# Altium integrated library Analog Devices Interface and Isolation Protection Products.IntLib: 92 symbols (part 2 of 5)
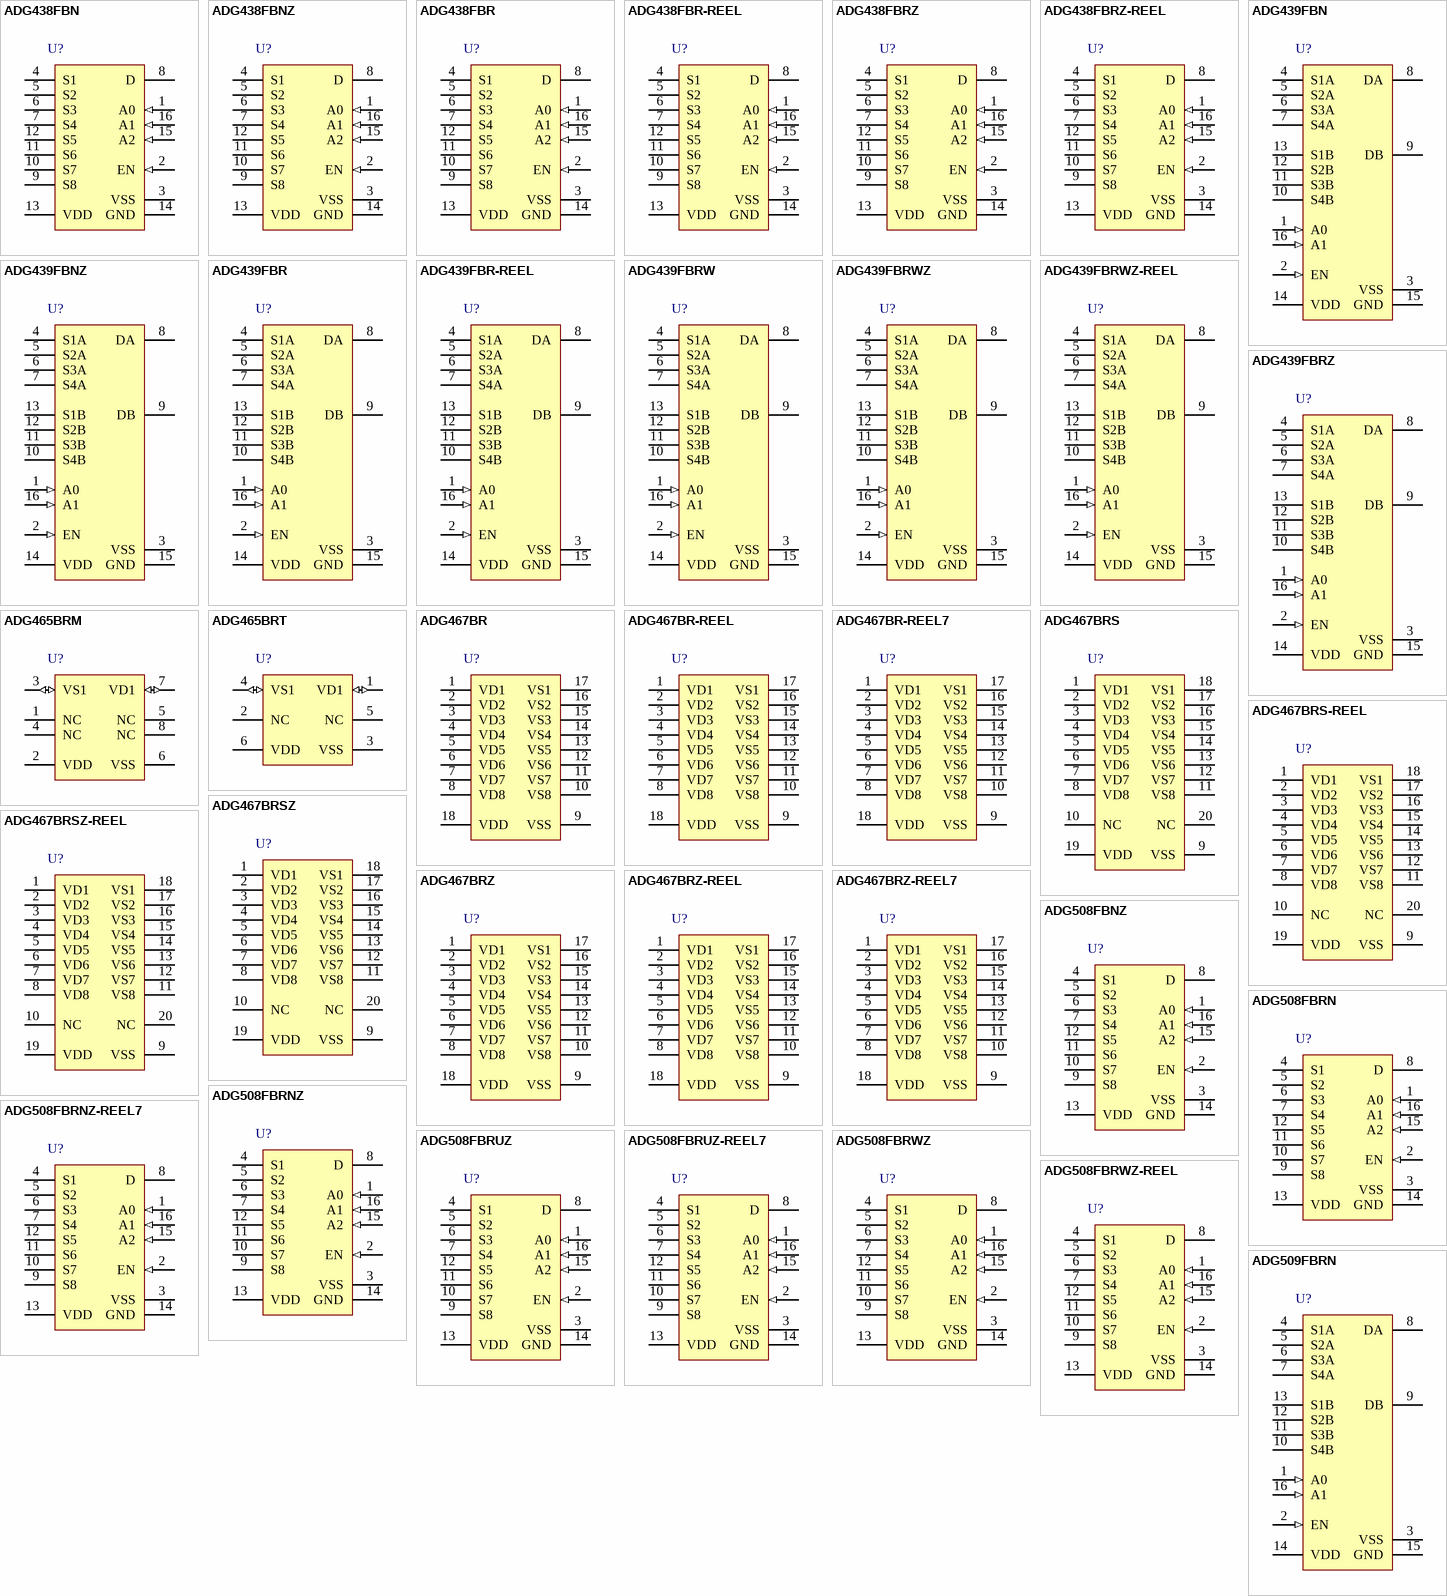
[diagram p3: symbols ADG438FBN to ADG509FBRN]

## ADG467BRSZ
designator U?
Octal Channel Protector, 62 Ohm Ron, -40 to 85 degC, 20-pin SOP (RS-20), Tube; Manufacturer: Analog Devices; PartNumber: ADG467BRSZ; # Sw Functions: 8; Max Neg Supply: 20V; Ron (ohms): 62; DatasheetVersion: Rev. B; PackageVersion: Mar-03; PackageReference: RS-20; PackageDescription: 20-Pin Shrink Small Outline Package, Body 7.2 x 5.3 mm, Pitch 0.65 mm; Supplier 1: Digi-Key; Supplier Part Number 1: ADG467BRSZ-ND; Supplier 2: Farnell; Supplier Part Number 2: 2312791; Supplier 3: Newark; Supplier Part Number 3: 59K1346; Supplier 4: Mouser; Supplier Part Number 4: 584-ADG467BRSZ; Configuration: Channel Protector; Max Pos Supply: 20V; Packing: Tube; Mounting Technology: Surface Mount; Code_JEDEC: MO-150AE; ComponentLink1Description: Manufacturer URL; ComponentLink1URL: http://www.analog.com/en/index.html; ComponentLink2Description: Datasheet; ComponentLink2URL: http://www.analog.com/static/imported-files/data_sheets/ADG467.pdf; ComponentLink3Description: Package Specification; ComponentLink3URL: http://www.analog.com/static/imported-files/packages/318405805657546556503576154334802686596RS_20.pdf
footprint ADI-RS-20_N (SOP, 20-Leads, Body 7.2x5.3mm, Pitch 0.65mm, IPC Medium Density)
footprint ADI-RS-20_L (SOP, 20-Leads, Body 7.2x5.3mm, Pitch 0.65mm, IPC High Density)
footprint ADI-RS-20_M (SOP, 20-Leads, Body 7.2x5.3mm, Pitch 0.65mm, IPC Low Density)
pins: 1 VD1 "Drain Terminal 1. This pin can be an input or an output.", 2 VD2 "Drain Terminal 2. This pin can be an input or an output.", 3 VD3 "Drain Terminal 3. This pin can be an input or an output.", 4 VD4 "Drain Terminal 4. This pin can be an input or an output.", 5 VD5 "Drain Terminal 5. This pin can be an input or an output.", 6 VD6 "Drain Terminal 6. This pin can be an input or an output.", 7 VD7 "Drain Terminal 7. This pin can be an input or an output.", 8 VD8 "Drain Terminal 8. This pin can be an input or an output.", 9 VSS (power) "Most Negative Power Supply Potential. In single-supply applications, this pin can be connected to ground.", 10 NC "No Connect.", 11 VS8 "Source Terminal 1. This pin can be an input or an output.", 12 VS7 "Source Terminal 2. This pin can be an input or an output.", 13 VS6 "Source Terminal 3. This pin can be an input or an output.", 14 VS5 "Source Terminal 4. This pin can be an input or an output.", 15 VS4 "Source Terminal 5. This pin can be an input or an output.", 16 VS3 "Source Terminal 6. This pin can be an input or an output.", 17 VS2 "Source Terminal 7. This pin can be an input or an output.", 18 VS1 "Source Terminal 8. This pin can be an input or an output.", 19 VDD (power) "Most Positive Power Supply Potential.", 20 NC "No Connect. Do not connect to this pin."

## ADG467BRSZ-REEL
designator U?
Octal Channel Protector, 62 Ohm Ron, -40 to 85 degC, 20-pin SOP (RS-20), Reel; Manufacturer: Analog Devices; PartNumber: ADG467BRSZ-REEL; # Sw Functions: 8; Max Neg Supply: 20V; Ron (ohms): 62; DatasheetVersion: Rev. B; PackageVersion: Mar-03; PackageReference: RS-20; PackageDescription: 20-Pin Shrink Small Outline Package, Body 7.2 x 5.3 mm, Pitch 0.65 mm; Supplier 1: Digi-Key; Supplier Part Number 1: ADG467BRSZ-REEL-ND; Supplier 2: Newark; Supplier Part Number 2: 11R0919; Supplier 3: Mouser; Supplier Part Number 3: 584-ADG467BRSZ-R; Configuration: Channel Protector; Max Pos Supply: 20V; Packing: Reel; Mounting Technology: Surface Mount; Code_JEDEC: MO-150AE; ComponentLink1Description: Manufacturer URL; ComponentLink1URL: http://www.analog.com/en/index.html; ComponentLink2Description: Datasheet; ComponentLink2URL: http://www.analog.com/static/imported-files/data_sheets/ADG467.pdf; ComponentLink3Description: Package Specification; ComponentLink3URL: http://www.analog.com/static/imported-files/packages/318405805657546556503576154334802686596RS_20.pdf
footprint ADI-RS-20_N (SOP, 20-Leads, Body 7.2x5.3mm, Pitch 0.65mm, IPC Medium Density)
footprint ADI-RS-20_L (SOP, 20-Leads, Body 7.2x5.3mm, Pitch 0.65mm, IPC High Density)
footprint ADI-RS-20_M (SOP, 20-Leads, Body 7.2x5.3mm, Pitch 0.65mm, IPC Low Density)
pins: 1 VD1 "Drain Terminal 1. This pin can be an input or an output.", 2 VD2 "Drain Terminal 2. This pin can be an input or an output.", 3 VD3 "Drain Terminal 3. This pin can be an input or an output.", 4 VD4 "Drain Terminal 4. This pin can be an input or an output.", 5 VD5 "Drain Terminal 5. This pin can be an input or an output.", 6 VD6 "Drain Terminal 6. This pin can be an input or an output.", 7 VD7 "Drain Terminal 7. This pin can be an input or an output.", 8 VD8 "Drain Terminal 8. This pin can be an input or an output.", 9 VSS (power) "Most Negative Power Supply Potential. In single-supply applications, this pin can be connected to ground.", 10 NC "No Connect.", 11 VS8 "Source Terminal 1. This pin can be an input or an output.", 12 VS7 "Source Terminal 2. This pin can be an input or an output.", 13 VS6 "Source Terminal 3. This pin can be an input or an output.", 14 VS5 "Source Terminal 4. This pin can be an input or an output.", 15 VS4 "Source Terminal 5. This pin can be an input or an output.", 16 VS3 "Source Terminal 6. This pin can be an input or an output.", 17 VS2 "Source Terminal 7. This pin can be an input or an output.", 18 VS1 "Source Terminal 8. This pin can be an input or an output.", 19 VDD (power) "Most Positive Power Supply Potential.", 20 NC "No Connect. Do not connect to this pin."

## ADG467BRZ
designator U?
Octal Channel Protector, 62 Ohm Ron, -40 to 85 degC, 18-pin SOIC (RW-18), Tube; Manufacturer: Analog Devices; PartNumber: ADG467BRZ; # Sw Functions: 8; Max Neg Supply: 20V; Ron (ohms): 62; DatasheetVersion: Rev. B; PackageVersion: 060706-A, 06/2006; PackageReference: RW-18; PackageDescription: 18-Pin Standard Small Outline Package, Body 11.55 x 7.5 mm, Pitch 1.27 mm; Supplier 1: Digi-Key; Supplier Part Number 1: ADG467BRZ-ND; Supplier 2: Farnell; Supplier Part Number 2: 1438711; Supplier 3: Newark; Supplier Part Number 3: 15P0376; Supplier 4: Newark; Supplier Part Number 4: 59K1347; Supplier 5: Mouser; Supplier Part Number 5: 584-ADG467BRZ; Configuration: Channel Protector; Max Pos Supply: 20V; Packing: Tube; Mounting Technology: Surface Mount; Code_JEDEC: MS-013-AB; ComponentLink1Description: Manufacturer URL; ComponentLink1URL: http://www.analog.com/en/index.html; ComponentLink2Description: Datasheet; ComponentLink2URL: http://www.analog.com/static/imported-files/data_sheets/ADG467.pdf; ComponentLink3Description: Package Specification; ComponentLink3URL: http://www.analog.com/static/imported-files/packages/33254132129439RW_18.pdf
footprint ADI-RW-18_N (SOIC, 18-Leads, Body 11.55x7.5mm, Pitch 1.27mm, IPC Medium Density)
footprint ADI-RW-18_L (SOIC, 18-Leads, Body 11.55x7.5mm, Pitch 1.27mm, IPC High Density)
footprint ADI-RW-18_M (SOIC, 18-Leads, Body 11.55x7.5mm, Pitch 1.27mm, IPC Low Density)
pins: 1 VD1 "Drain Terminal 1. This pin can be an input or an output.", 2 VD2 "Drain Terminal 2. This pin can be an input or an output.", 3 VD3 "Drain Terminal 3. This pin can be an input or an output.", 4 VD4 "Drain Terminal 4. This pin can be an input or an output.", 5 VD5 "Drain Terminal 5. This pin can be an input or an output.", 6 VD6 "Drain Terminal 6. This pin can be an input or an output.", 7 VD7 "Drain Terminal 7. This pin can be an input or an output.", 8 VD8 "Drain Terminal 8. This pin can be an input or an output.", 9 VSS (power) "Most Negative Power Supply Potential. In single-supply applications, this pin can be connected to ground.", 10 VS8 "Source Terminal 1. This pin can be an input or an output.", 11 VS7 "Source Terminal 2. This pin can be an input or an output.", 12 VS6 "Source Terminal 3. This pin can be an input or an output.", 13 VS5 "Source Terminal 4. This pin can be an input or an output.", 14 VS4 "Source Terminal 5. This pin can be an input or an output.", 15 VS3 "Source Terminal 6. This pin can be an input or an output.", 16 VS2 "Source Terminal 7. This pin can be an input or an output.", 17 VS1 "Source Terminal 8. This pin can be an input or an output.", 18 VDD (power) "Most Positive Power Supply Potential."

## ADG467BRZ-REEL
designator U?
Octal Channel Protector, 62 Ohm Ron, -40 to 85 degC, 18-pin SOIC (RW-18), Reel; Manufacturer: Analog Devices; PartNumber: ADG467BRZ-REEL; # Sw Functions: 8; Max Neg Supply: 20V; Ron (ohms): 62; DatasheetVersion: Rev. B; PackageVersion: 060706-A, 06/2006; PackageReference: RW-18; PackageDescription: 18-Pin Standard Small Outline Package, Body 11.55 x 7.5 mm, Pitch 1.27 mm; Supplier 1: Digi-Key; Supplier Part Number 1: ADG467BRZ-REEL-ND; Supplier 2: Mouser; Supplier Part Number 2: 584-ADG467BRZ-R; Configuration: Channel Protector; Max Pos Supply: 20V; Packing: Reel; Mounting Technology: Surface Mount; Code_JEDEC: MS-013-AB; ComponentLink1Description: Manufacturer URL; ComponentLink1URL: http://www.analog.com/en/index.html; ComponentLink2Description: Datasheet; ComponentLink2URL: http://www.analog.com/static/imported-files/data_sheets/ADG467.pdf; ComponentLink3Description: Package Specification; ComponentLink3URL: http://www.analog.com/static/imported-files/packages/33254132129439RW_18.pdf
footprint ADI-RW-18_N (SOIC, 18-Leads, Body 11.55x7.5mm, Pitch 1.27mm, IPC Medium Density)
footprint ADI-RW-18_L (SOIC, 18-Leads, Body 11.55x7.5mm, Pitch 1.27mm, IPC High Density)
footprint ADI-RW-18_M (SOIC, 18-Leads, Body 11.55x7.5mm, Pitch 1.27mm, IPC Low Density)
pins: 1 VD1 "Drain Terminal 1. This pin can be an input or an output.", 2 VD2 "Drain Terminal 2. This pin can be an input or an output.", 3 VD3 "Drain Terminal 3. This pin can be an input or an output.", 4 VD4 "Drain Terminal 4. This pin can be an input or an output.", 5 VD5 "Drain Terminal 5. This pin can be an input or an output.", 6 VD6 "Drain Terminal 6. This pin can be an input or an output.", 7 VD7 "Drain Terminal 7. This pin can be an input or an output.", 8 VD8 "Drain Terminal 8. This pin can be an input or an output.", 9 VSS (power) "Most Negative Power Supply Potential. In single-supply applications, this pin can be connected to ground.", 10 VS8 "Source Terminal 1. This pin can be an input or an output.", 11 VS7 "Source Terminal 2. This pin can be an input or an output.", 12 VS6 "Source Terminal 3. This pin can be an input or an output.", 13 VS5 "Source Terminal 4. This pin can be an input or an output.", 14 VS4 "Source Terminal 5. This pin can be an input or an output.", 15 VS3 "Source Terminal 6. This pin can be an input or an output.", 16 VS2 "Source Terminal 7. This pin can be an input or an output.", 17 VS1 "Source Terminal 8. This pin can be an input or an output.", 18 VDD (power) "Most Positive Power Supply Potential."

## ADG467BRZ-REEL7
designator U?
Octal Channel Protector, 62 Ohm Ron, -40 to 85 degC, 18-pin SOIC (RW-18), Reel; Manufacturer: Analog Devices; PartNumber: ADG467BRZ-REEL7; # Sw Functions: 8; Max Neg Supply: 20V; Ron (ohms): 62; DatasheetVersion: Rev. B; PackageVersion: 060706-A, 06/2006; PackageReference: RW-18; PackageDescription: 18-Pin Standard Small Outline Package, Body 11.55 x 7.5 mm, Pitch 1.27 mm; Supplier 1: Digi-Key; Supplier Part Number 1: ADG467BRZ-REEL7-ND; Supplier 2: Mouser; Supplier Part Number 2: 584-ADG467BRZ-R7; Configuration: Channel Protector; Max Pos Supply: 20V; Packing: Reel; Mounting Technology: Surface Mount; Code_JEDEC: MS-013-AB; ComponentLink1Description: Manufacturer URL; ComponentLink1URL: http://www.analog.com/en/index.html; ComponentLink2Description: Datasheet; ComponentLink2URL: http://www.analog.com/static/imported-files/data_sheets/ADG467.pdf; ComponentLink3Description: Package Specification; ComponentLink3URL: http://www.analog.com/static/imported-files/packages/33254132129439RW_18.pdf
footprint ADI-RW-18_N (SOIC, 18-Leads, Body 11.55x7.5mm, Pitch 1.27mm, IPC Medium Density)
footprint ADI-RW-18_L (SOIC, 18-Leads, Body 11.55x7.5mm, Pitch 1.27mm, IPC High Density)
footprint ADI-RW-18_M (SOIC, 18-Leads, Body 11.55x7.5mm, Pitch 1.27mm, IPC Low Density)
pins: 1 VD1 "Drain Terminal 1. This pin can be an input or an output.", 2 VD2 "Drain Terminal 2. This pin can be an input or an output.", 3 VD3 "Drain Terminal 3. This pin can be an input or an output.", 4 VD4 "Drain Terminal 4. This pin can be an input or an output.", 5 VD5 "Drain Terminal 5. This pin can be an input or an output.", 6 VD6 "Drain Terminal 6. This pin can be an input or an output.", 7 VD7 "Drain Terminal 7. This pin can be an input or an output.", 8 VD8 "Drain Terminal 8. This pin can be an input or an output.", 9 VSS (power) "Most Negative Power Supply Potential. In single-supply applications, this pin can be connected to ground.", 10 VS8 "Source Terminal 1. This pin can be an input or an output.", 11 VS7 "Source Terminal 2. This pin can be an input or an output.", 12 VS6 "Source Terminal 3. This pin can be an input or an output.", 13 VS5 "Source Terminal 4. This pin can be an input or an output.", 14 VS4 "Source Terminal 5. This pin can be an input or an output.", 15 VS3 "Source Terminal 6. This pin can be an input or an output.", 16 VS2 "Source Terminal 7. This pin can be an input or an output.", 17 VS1 "Source Terminal 8. This pin can be an input or an output.", 18 VDD (power) "Most Positive Power Supply Potential."

## ADG508FBNZ
designator U?
8-Channel Fault-Protected Analog Multiplexer, -40 to 85 degC, 16-pin DIP (N-16), Tube; Manufacturer: Analog Devices; PartNumber: ADG508FBNZ; Ron (ohms): 300; Supply V Guar Performance: Dual_(+/-12V), Dual_(+/-15V); t transition (s): 200n; DatasheetVersion: Rev. F; PackageVersion: 070706-A, 07/2006; PackageReference: N-16; PackageDescription: 16-Pin Plastic Dual In-Line Package, Row spacing 7.62 mm, Pitch 2.54 mm; Supplier 1: Digi-Key; Supplier Part Number 1: ADG508FBNZ-ND; Supplier 2: Farnell; Supplier Part Number 2: 1079419; Supplier 3: Newark; Supplier Part Number 3: 19M0676; Supplier 4: Mouser; Supplier Part Number 4: 584-ADG508FBNZ; Packing: Tube; Mounting Technology: Through Hole; Code_JEDEC: MS-001; ComponentLink1Description: Manufacturer URL; ComponentLink1URL: http://www.analog.com/en/index.html; ComponentLink2Description: Datasheet; ComponentLink2URL: http://www.analog.com/static/imported-files/data_sheets/ADG508F_509F.pdf; ComponentLink3Description: Package Specification; ComponentLink3URL: http://www.analog.com/static/imported-files/packages/44768431550332N_16.pdf
footprint ADI-N-16 (DIP, 16-Leads, Body 20.07x6.6mm, Pitch 2.54mm)
pins: 1 A0 (in) "Logic Control Input.", 2 EN (in) "Active High Digital Input. When low, the device is disabled and all switches are off. When high, Ax logic inputs determine on switches.", 3 VSS (power) "Most Negative Power Supply Potential. In single-supply applications, this pin can be connected to ground.", 4 S1 "Source Terminal 1. This pin can be an input or an output.", 5 S2 "Source Terminal 2. This pin can be an input or an output.", 6 S3 "Source Terminal 2. This pin can be an input or an output.", 7 S4 "Source Terminal 4. This pin can be an input or an output.", 8 D "Drain Terminal. This pin can be an input or an output.", 9 S8 "Source Terminal 8. This pin can be an input or an output.", 10 S7 "Source Terminal 7. This pin can be an input or an output.", 11 S6 "Source Terminal 6. This pin can be an input or an output.", 12 S5 "Source Terminal 5. This pin can be an input or an output.", 13 VDD (power) "Most Positive Power Supply Potential.", 14 GND (power) "Ground (0 V) Reference.", 15 A2 (in) "Logic Control Input.", 16 A1 (in) "Logic Control Input."

## ADG508FBRN
designator U?
8-Channel Fault-Protected Analog Multiplexer, -40 to 85 degC, 16-pin SOIC (R-16), Tube; Manufacturer: Analog Devices; PartNumber: ADG508FBRN; Ron (ohms): 300; Supply V Guar Performance: Dual_(+/-12V), Dual_(+/-15V); t transition (s): 200n; DatasheetVersion: Rev. F; PackageVersion: 060606-A, 06/2006; PackageReference: R-16; PackageDescription: 16-Pin Standard Small Outline Package, Body 9.9 x 3.9 mm, Pitch 1.27 mm; Supplier 1: Digi-Key; Supplier Part Number 1: ADG508FBRN-ND; Supplier 2: Mouser; Supplier Part Number 2: 584-ADG508FBRN; Packing: Tube; Mounting Technology: Surface Mount; Code_JEDEC: MS-012-AC; ComponentLink1Description: Manufacturer URL; ComponentLink1URL: http://www.analog.com/en/index.html; ComponentLink2Description: Datasheet; ComponentLink2URL: http://www.analog.com/static/imported-files/data_sheets/ADG508F_509F.pdf; ComponentLink3Description: Package Specification; ComponentLink3URL: http://www.analog.com/static/imported-files/packages/PKG_PDF/SOIC_Narrow%20(R)/R_16.pdf
footprint ADI-R-16_N (SOIC, 16-Leads, Body 9.9x3.9mm, Pitch 1.27mm, IPC Medium Density)
footprint ADI-R-16_L (SOIC, 16-Leads, Body 9.9x3.9mm, Pitch 1.27mm, IPC High Density)
footprint ADI-R-16_M (SOIC, 16-Leads, Body 9.9x3.9mm, Pitch 1.27mm, IPC Low Density)
pins: 1 A0 (in) "Logic Control Input.", 2 EN (in) "Active High Digital Input. When low, the device is disabled and all switches are off. When high, Ax logic inputs determine on switches.", 3 VSS (power) "Most Negative Power Supply Potential. In single-supply applications, it can be connected to ground.", 4 S1 "Source Terminal 1. Can be an input or an output.", 5 S2 "Source Terminal 2. Can be an input or an output.", 6 S3 "Source Terminal 3. Can be an input or an output.", 7 S4 "Source Terminal 4. Can be an input or an output.", 8 D "Drain Terminal. Can be an input or an output.", 9 S8 "Source Terminal 8. Can be an input or an output.", 10 S7 "Source Terminal 7. Can be an input or an output.", 11 S6 "Source Terminal 6. Can be an input or an output.", 12 S5 "Source Terminal 5. Can be an input or an output.", 13 VDD (power) "Most Positive Power Supply Potential.", 14 GND (power) "Ground (0 V) Reference.", 15 A2 (in) "Logic Control Input.", 16 A1 (in) "Logic Control Input."

## ADG508FBRNZ
designator U?
8-Channel Fault-Protected Analog Multiplexer, -40 to 85 degC, 16-pin SOIC (R-16), Tube; Manufacturer: Analog Devices; PartNumber: ADG508FBRNZ; Ron (ohms): 300; Supply V Guar Performance: Dual_(+/-12V), Dual_(+/-15V); t transition (s): 200n; DatasheetVersion: Rev. F; PackageVersion: 060606-A, 06/2006; PackageReference: R-16; PackageDescription: 16-Pin Standard Small Outline Package, Body 9.9 x 3.9 mm, Pitch 1.27 mm; Supplier 1: Digi-Key; Supplier Part Number 1: ADG508FBRNZ-ND; Supplier 2: Farnell; Supplier Part Number 2: 1838901; Supplier 3: Newark; Supplier Part Number 3: 19M8660; Supplier 4: Mouser; Supplier Part Number 4: 584-ADG508FBRNZ; Packing: Tube; Mounting Technology: Surface Mount; Code_JEDEC: MS-012-AC; ComponentLink1Description: Manufacturer URL; ComponentLink1URL: http://www.analog.com/en/index.html; ComponentLink2Description: Datasheet; ComponentLink2URL: http://www.analog.com/static/imported-files/data_sheets/ADG508F_509F.pdf; ComponentLink3Description: Package Specification; ComponentLink3URL: http://www.analog.com/static/imported-files/packages/PKG_PDF/SOIC_Narrow%20(R)/R_16.pdf
footprint ADI-R-16_N (SOIC, 16-Leads, Body 9.9x3.9mm, Pitch 1.27mm, IPC Medium Density)
footprint ADI-R-16_L (SOIC, 16-Leads, Body 9.9x3.9mm, Pitch 1.27mm, IPC High Density)
footprint ADI-R-16_M (SOIC, 16-Leads, Body 9.9x3.9mm, Pitch 1.27mm, IPC Low Density)
pins: 1 A0 (in) "Logic Control Input.", 2 EN (in) "Active High Digital Input. When low, the device is disabled and all switches are off. When high, Ax logic inputs determine on switches.", 3 VSS (power) "Most Negative Power Supply Potential. In single-supply applications, it can be connected to ground.", 4 S1 "Source Terminal 1. Can be an input or an output.", 5 S2 "Source Terminal 2. Can be an input or an output.", 6 S3 "Source Terminal 3. Can be an input or an output.", 7 S4 "Source Terminal 4. Can be an input or an output.", 8 D "Drain Terminal. Can be an input or an output.", 9 S8 "Source Terminal 8. Can be an input or an output.", 10 S7 "Source Terminal 7. Can be an input or an output.", 11 S6 "Source Terminal 6. Can be an input or an output.", 12 S5 "Source Terminal 5. Can be an input or an output.", 13 VDD (power) "Most Positive Power Supply Potential.", 14 GND (power) "Ground (0 V) Reference.", 15 A2 (in) "Logic Control Input.", 16 A1 (in) "Logic Control Input."

## ADG508FBRNZ-REEL7
designator U?
8-Channel Fault-Protected Analog Multiplexer, -40 to 85 degC, 16-pin SOIC (R-16), Reel; Manufacturer: Analog Devices; PartNumber: ADG508FBRNZ-REEL7; Ron (ohms): 300; Supply V Guar Performance: Dual_(+/-12V), Dual_(+/-15V); t transition (s): 200n; DatasheetVersion: Rev. F; PackageVersion: 060606-A, 06/2006; PackageReference: R-16; PackageDescription: 16-Pin Standard Small Outline Package, Body 9.9 x 3.9 mm, Pitch 1.27 mm; Supplier 1: Digi-Key; Supplier Part Number 1: ADG508FBRNZ-REEL7-ND; Supplier 2: Mouser; Supplier Part Number 2: 584-ADG508FBRNZ-R7; Packing: Reel; Mounting Technology: Surface Mount; Code_JEDEC: MS-012-AC; ComponentLink1Description: Manufacturer URL; ComponentLink1URL: http://www.analog.com/en/index.html; ComponentLink2Description: Datasheet; ComponentLink2URL: http://www.analog.com/static/imported-files/data_sheets/ADG508F_509F.pdf; ComponentLink3Description: Package Specification; ComponentLink3URL: http://www.analog.com/static/imported-files/packages/PKG_PDF/SOIC_Narrow%20(R)/R_16.pdf
footprint ADI-R-16_N (SOIC, 16-Leads, Body 9.9x3.9mm, Pitch 1.27mm, IPC Medium Density)
footprint ADI-R-16_L (SOIC, 16-Leads, Body 9.9x3.9mm, Pitch 1.27mm, IPC High Density)
footprint ADI-R-16_M (SOIC, 16-Leads, Body 9.9x3.9mm, Pitch 1.27mm, IPC Low Density)
pins: 1 A0 (in) "Logic Control Input.", 2 EN (in) "Active High Digital Input. When low, the device is disabled and all switches are off. When high, Ax logic inputs determine on switches.", 3 VSS (power) "Most Negative Power Supply Potential. In single-supply applications, it can be connected to ground.", 4 S1 "Source Terminal 1. Can be an input or an output.", 5 S2 "Source Terminal 2. Can be an input or an output.", 6 S3 "Source Terminal 3. Can be an input or an output.", 7 S4 "Source Terminal 4. Can be an input or an output.", 8 D "Drain Terminal. Can be an input or an output.", 9 S8 "Source Terminal 8. Can be an input or an output.", 10 S7 "Source Terminal 7. Can be an input or an output.", 11 S6 "Source Terminal 6. Can be an input or an output.", 12 S5 "Source Terminal 5. Can be an input or an output.", 13 VDD (power) "Most Positive Power Supply Potential.", 14 GND (power) "Ground (0 V) Reference.", 15 A2 (in) "Logic Control Input.", 16 A1 (in) "Logic Control Input."

## ADG508FBRUZ
designator U?
8-Channel Fault-Protected Analog Multiplexer, -40 to 85 degC, 16-pin SOP (RU-16), Tube; Manufacturer: Analog Devices; PartNumber: ADG508FBRUZ; Ron (ohms): 300; Supply V Guar Performance: Dual_(+/-12V), Dual_(+/-15V); t transition (s): 200n; DatasheetVersion: Rev. F; PackageVersion: Nov-02; PackageReference: RU-16; PackageDescription: 16-Pin Thin Shrink Small Outline Package, Body 5 x 4.4 mm, Pitch 0.65 mm; Supplier 1: Digi-Key; Supplier Part Number 1: ADG508FBRUZ-ND; Supplier 2: Newark; Supplier Part Number 2: 86T6057; Supplier 3: Mouser; Supplier Part Number 3: 584-ADG508FBRUZ; Packing: Tube; Mounting Technology: Surface Mount; Code_JEDEC: MO-153AB; ComponentLink1Description: Manufacturer URL; ComponentLink1URL: http://www.analog.com/en/index.html; ComponentLink2Description: Datasheet; ComponentLink2URL: http://www.analog.com/static/imported-files/data_sheets/ADG508F_509F.pdf; ComponentLink3Description: Package Specification; ComponentLink3URL: http:/www.analog.com/static/imported-files/packages/36244347913743854010197452789RU16.pdf
footprint ADI-RU-16_N (SOP, 16-Leads, Body 5x4.4mm, Pitch 0.65mm, IPC Medium Density)
footprint ADI-RU-16_L (SOP, 16-Leads, Body 5x4.4mm, Pitch 0.65mm, IPC High Density)
footprint ADI-RU-16_M (SOP, 16-Leads, Body 5x4.4mm, Pitch 0.65mm, IPC Low Density)
pins: 1 A0 (in) "Logic Control Input.", 2 EN (in) "Active High Digital Input. When low, the device is disabled and all switches are off. When high, Ax logic inputs determine on switches.", 3 VSS (power) "Most Negative Power Supply Potential. In single-supply applications, this pin can be connected to ground.", 4 S1 "Source Terminal 1. This pin can be an input or an output.", 5 S2 "Source Terminal 2. This pin can be an input or an output.", 6 S3 "Source Terminal 3. This pin can be an input or an output.", 7 S4 "Source Terminal 4. This pin can be an input or an output.", 8 D "Drain Terminal. This pin can be an input or an output.", 9 S8 "Source Terminal 8. This pin can be an input or an output.", 10 S7 "Source Terminal 7. This pin can be an input or an output.", 11 S6 "Source Terminal 6. This pin can be an input or an output.", 12 S5 "Source Terminal 5. This pin can be an input or an output.", 13 VDD (power) "Most Positive Power Supply Potential.", 14 GND (power) "Ground (0 V) Reference.", 15 A2 (in) "Logic Control Input.", 16 A1 (in) "Logic Control Input."

## ADG508FBRUZ-REEL7
designator U?
8-Channel Fault-Protected Analog Multiplexer, -40 to 85 degC, 16-pin SOP (RU-16), Reel; Manufacturer: Analog Devices; PartNumber: ADG508FBRUZ-REEL7; Ron (ohms): 300; Supply V Guar Performance: Dual_(+/-12V), Dual_(+/-15V); t transition (s): 200n; DatasheetVersion: Rev. F; PackageVersion: Nov-02; PackageReference: RU-16; PackageDescription: 16-Pin Thin Shrink Small Outline Package, Body 5 x 4.4 mm, Pitch 0.65 mm; Supplier 1: Digi-Key; Supplier Part Number 1: ADG508FBRUZ-REEL7-ND; Supplier 2: Mouser; Supplier Part Number 2: 584-ADG508FBRUZ-R7; Packing: Reel; Mounting Technology: Surface Mount; Code_JEDEC: MO-153AB; ComponentLink1Description: Manufacturer URL; ComponentLink1URL: http://www.analog.com/en/index.html; ComponentLink2Description: Datasheet; ComponentLink2URL: http://www.analog.com/static/imported-files/data_sheets/ADG508F_509F.pdf; ComponentLink3Description: Package Specification; ComponentLink3URL: http:/www.analog.com/static/imported-files/packages/36244347913743854010197452789RU16.pdf
footprint ADI-RU-16_N (SOP, 16-Leads, Body 5x4.4mm, Pitch 0.65mm, IPC Medium Density)
footprint ADI-RU-16_L (SOP, 16-Leads, Body 5x4.4mm, Pitch 0.65mm, IPC High Density)
footprint ADI-RU-16_M (SOP, 16-Leads, Body 5x4.4mm, Pitch 0.65mm, IPC Low Density)
pins: 1 A0 (in) "Logic Control Input.", 2 EN (in) "Active High Digital Input. When low, the device is disabled and all switches are off. When high, Ax logic inputs determine on switches.", 3 VSS (power) "Most Negative Power Supply Potential. In single-supply applications, this pin can be connected to ground.", 4 S1 "Source Terminal 1. This pin can be an input or an output.", 5 S2 "Source Terminal 2. This pin can be an input or an output.", 6 S3 "Source Terminal 3. This pin can be an input or an output.", 7 S4 "Source Terminal 4. This pin can be an input or an output.", 8 D "Drain Terminal. This pin can be an input or an output.", 9 S8 "Source Terminal 8. This pin can be an input or an output.", 10 S7 "Source Terminal 7. This pin can be an input or an output.", 11 S6 "Source Terminal 6. This pin can be an input or an output.", 12 S5 "Source Terminal 5. This pin can be an input or an output.", 13 VDD (power) "Most Positive Power Supply Potential.", 14 GND (power) "Ground (0 V) Reference.", 15 A2 (in) "Logic Control Input.", 16 A1 (in) "Logic Control Input."

## ADG508FBRWZ
designator U?
8-Channel Fault-Protected Analog Multiplexer, -40 to 85 degC, 16-pin SOIC (RW-16), Tube; Manufacturer: Analog Devices; PartNumber: ADG508FBRWZ; Ron (ohms): 300; Supply V Guar Performance: Dual_(+/-12V), Dual_(+/-15V); t transition (s): 200n; DatasheetVersion: Rev. F; PackageVersion: 032707-B, 03/2007; PackageReference: RW-16; PackageDescription: 16-Pin Standard Small Outline Package, Body 10.3 x 7.5 mm, Pitch 1.27 mm; Supplier 1: Digi-Key; Supplier Part Number 1: ADG508FBRWZ-ND; Supplier 2: Newark; Supplier Part Number 2: 59K1367; Supplier 3: Mouser; Supplier Part Number 3: 584-ADG508FBRWZ; Packing: Tube; Mounting Technology: Surface Mount; Code_JEDEC: MS-013-AA; ComponentLink1Description: Manufacturer URL; ComponentLink1URL: http://www.analog.com/en/index.html; ComponentLink2Description: Datasheet; ComponentLink2URL: http://www.analog.com/static/imported-files/data_sheets/ADG508F_509F.pdf; ComponentLink3Description: Package Specification; ComponentLink3URL: http://www.analog.com/static/imported-files/packages/PKG_PDF/SOIC_WIDE%20%28RW%29/RW_16.pdf
footprint ADI-RW-16_N (SOIC, 16-Leads, Body 10.3x7.5mm, Pitch 1.27mm, IPC Medium Density)
footprint ADI-RW-16_L (SOIC, 16-Leads, Body 10.3x7.5mm, Pitch 1.27mm, IPC High Density)
footprint ADI-RW-16_M (SOIC, 16-Leads, Body 10.3x7.5mm, Pitch 1.27mm, IPC Low Density)
pins: 1 A0 (in) "Logic Control Input.", 2 EN (in) "Active High Digital Input. When low, the device is disabled, and all switches are off. When high, Ax logic inputs determine on switches.", 3 VSS (power) "Most Negative Power Supply Potential. In single-supply applications, this pin can be connected to ground.", 4 S1 "Source Terminal 1. This pin can be an input or an output.", 5 S2 "Source Terminal 2. This pin can be an input or an output.", 6 S3 "Source Terminal 3. This pin can be an input or an output.", 7 S4 "Source Terminal 4. This pin can be an input or an output.", 8 D "Drain Terminal. This pin can be an input or an output.", 9 S8 "Source Terminal 8. This pin can be an input or an output.", 10 S7 "Source Terminal 7. This pin can be an input or an output.", 11 S6 "Source Terminal 6. This pin can be an input or an output.", 12 S5 "Source Terminal 5. This pin can be an input or an output.", 13 VDD (power) "Most Positive Power Supply Potential.", 14 GND (power) "Ground (0 V) Reference.", 15 A2 (in) "Logic Control Input.", 16 A1 (in) "Logic Control Input."

## ADG508FBRWZ-REEL
designator U?
8-Channel Fault-Protected Analog Multiplexer, -40 to 85 degC, 16-pin SOIC (RW-16), Reel; Manufacturer: Analog Devices; PartNumber: ADG508FBRWZ-REEL; Ron (ohms): 300; Supply V Guar Performance: Dual_(+/-12V), Dual_(+/-15V); t transition (s): 200n; DatasheetVersion: Rev. F; PackageVersion: 032707-B, 03/2007; PackageReference: RW-16; PackageDescription: 16-Pin Standard Small Outline Package, Body 10.3 x 7.5 mm, Pitch 1.27 mm; Supplier 1: Digi-Key; Supplier Part Number 1: ADG508FBRWZ-REELTR-ND; Supplier 2: Digi-Key; Supplier Part Number 2: ADG508FBRWZ-REELCT-ND; Supplier 3: Digi-Key; Supplier Part Number 3: ADG508FBRWZ-REELDKR-ND; Supplier 4: Newark; Supplier Part Number 4: 59K1368; Supplier 5: Mouser; Supplier Part Number 5: 584-ADG508FBRWZ-R; Packing: Reel; Mounting Technology: Surface Mount; Code_JEDEC: MS-013-AA; ComponentLink1Description: Manufacturer URL; ComponentLink1URL: http://www.analog.com/en/index.html; ComponentLink2Description: Datasheet; ComponentLink2URL: http://www.analog.com/static/imported-files/data_sheets/ADG508F_509F.pdf; ComponentLink3Description: Package Specification; ComponentLink3URL: http://www.analog.com/static/imported-files/packages/PKG_PDF/SOIC_WIDE%20%28RW%29/RW_16.pdf
footprint ADI-RW-16_N (SOIC, 16-Leads, Body 10.3x7.5mm, Pitch 1.27mm, IPC Medium Density)
footprint ADI-RW-16_L (SOIC, 16-Leads, Body 10.3x7.5mm, Pitch 1.27mm, IPC High Density)
footprint ADI-RW-16_M (SOIC, 16-Leads, Body 10.3x7.5mm, Pitch 1.27mm, IPC Low Density)
pins: 1 A0 (in) "Logic Control Input.", 2 EN (in) "Active High Digital Input. When low, the device is disabled, and all switches are off. When high, Ax logic inputs determine on switches.", 3 VSS (power) "Most Negative Power Supply Potential. In single-supply applications, this pin can be connected to ground.", 4 S1 "Source Terminal 1. This pin can be an input or an output.", 5 S2 "Source Terminal 2. This pin can be an input or an output.", 6 S3 "Source Terminal 3. This pin can be an input or an output.", 7 S4 "Source Terminal 4. This pin can be an input or an output.", 8 D "Drain Terminal. This pin can be an input or an output.", 9 S8 "Source Terminal 8. This pin can be an input or an output.", 10 S7 "Source Terminal 7. This pin can be an input or an output.", 11 S6 "Source Terminal 6. This pin can be an input or an output.", 12 S5 "Source Terminal 5. This pin can be an input or an output.", 13 VDD (power) "Most Positive Power Supply Potential.", 14 GND (power) "Ground (0 V) Reference.", 15 A2 (in) "Logic Control Input.", 16 A1 (in) "Logic Control Input."

## ADG509FBRN
designator U?
4-Channel Fault-Protected Analog Multiplexer, -40 to 85 degC, 16-pin SOIC (R-16), Tube; Manufacturer: Analog Devices; PartNumber: ADG509FBRN; Ron (ohms): 300; Supply V Guar Performance: Dual_(+/-12V), Dual_(+/-15V); t transition (s): 200n; DatasheetVersion: Rev. F; PackageVersion: 060606-A, 06/2006; PackageReference: R-16; PackageDescription: 16-Pin Standard Small Outline Package, Body 9.9 x 3.9 mm, Pitch 1.27 mm; Supplier 1: Digi-Key; Supplier Part Number 1: ADG509FBRN-ND; Supplier 2: Mouser; Supplier Part Number 2: 584-ADG509FBRN; Packing: Tube; Mounting Technology: Surface Mount; Code_JEDEC: MS-012-AC; ComponentLink1Description: Manufacturer URL; ComponentLink1URL: http://www.analog.com/en/index.html; ComponentLink2Description: Datasheet; ComponentLink2URL: http://www.analog.com/static/imported-files/data_sheets/ADG508F_509F.pdf; ComponentLink3Description: Package Specification; ComponentLink3URL: http://www.analog.com/static/imported-files/packages/PKG_PDF/SOIC_Narrow%20(R)/R_16.pdf
footprint ADI-R-16_N (SOIC, 16-Leads, Body 9.9x3.9mm, Pitch 1.27mm, IPC Medium Density)
footprint ADI-R-16_L (SOIC, 16-Leads, Body 9.9x3.9mm, Pitch 1.27mm, IPC High Density)
footprint ADI-R-16_M (SOIC, 16-Leads, Body 9.9x3.9mm, Pitch 1.27mm, IPC Low Density)
pins: 1 A0 (in) "Logic Control Input.", 2 EN (in) "Active High Digital Input. When low, the device is disabled and all switches are off. When high, Ax logic inputs determine on switches.", 3 VSS (power) "Most Negative Power Supply Potential. In single-supply applications, this pin can be connected to ground.", 4 S1A "Source Terminal 1A. This pin can be an input or an output.", 5 S2A "Source Terminal 2A. This pin can be an input or an output.", 6 S3A "Source Terminal 3A. This pin can be an input or an output.", 7 S4A "Source Terminal 4A. This pin can be an input or an output.", 8 DA "Drain Terminal A. This pin can be an input or an output.", 9 DB "Drain Terminal B. This pin can be an input or an output.", 10 S4B "Source Terminal 4B. This pin can be an input or an output.", 11 S3B "Source Terminal 3B. This pin can be an input or an output.", 12 S2B "Source Terminal 2B. This pin can be an input or an output.", 13 S1B "Source Terminal 1B. This pin can be an input or an output.", 14 VDD (power) "Most Positive Power Supply Potential.", 15 GND (power) "Ground (0 V) Reference.", 16 A1 (in) "Logic Control Input."

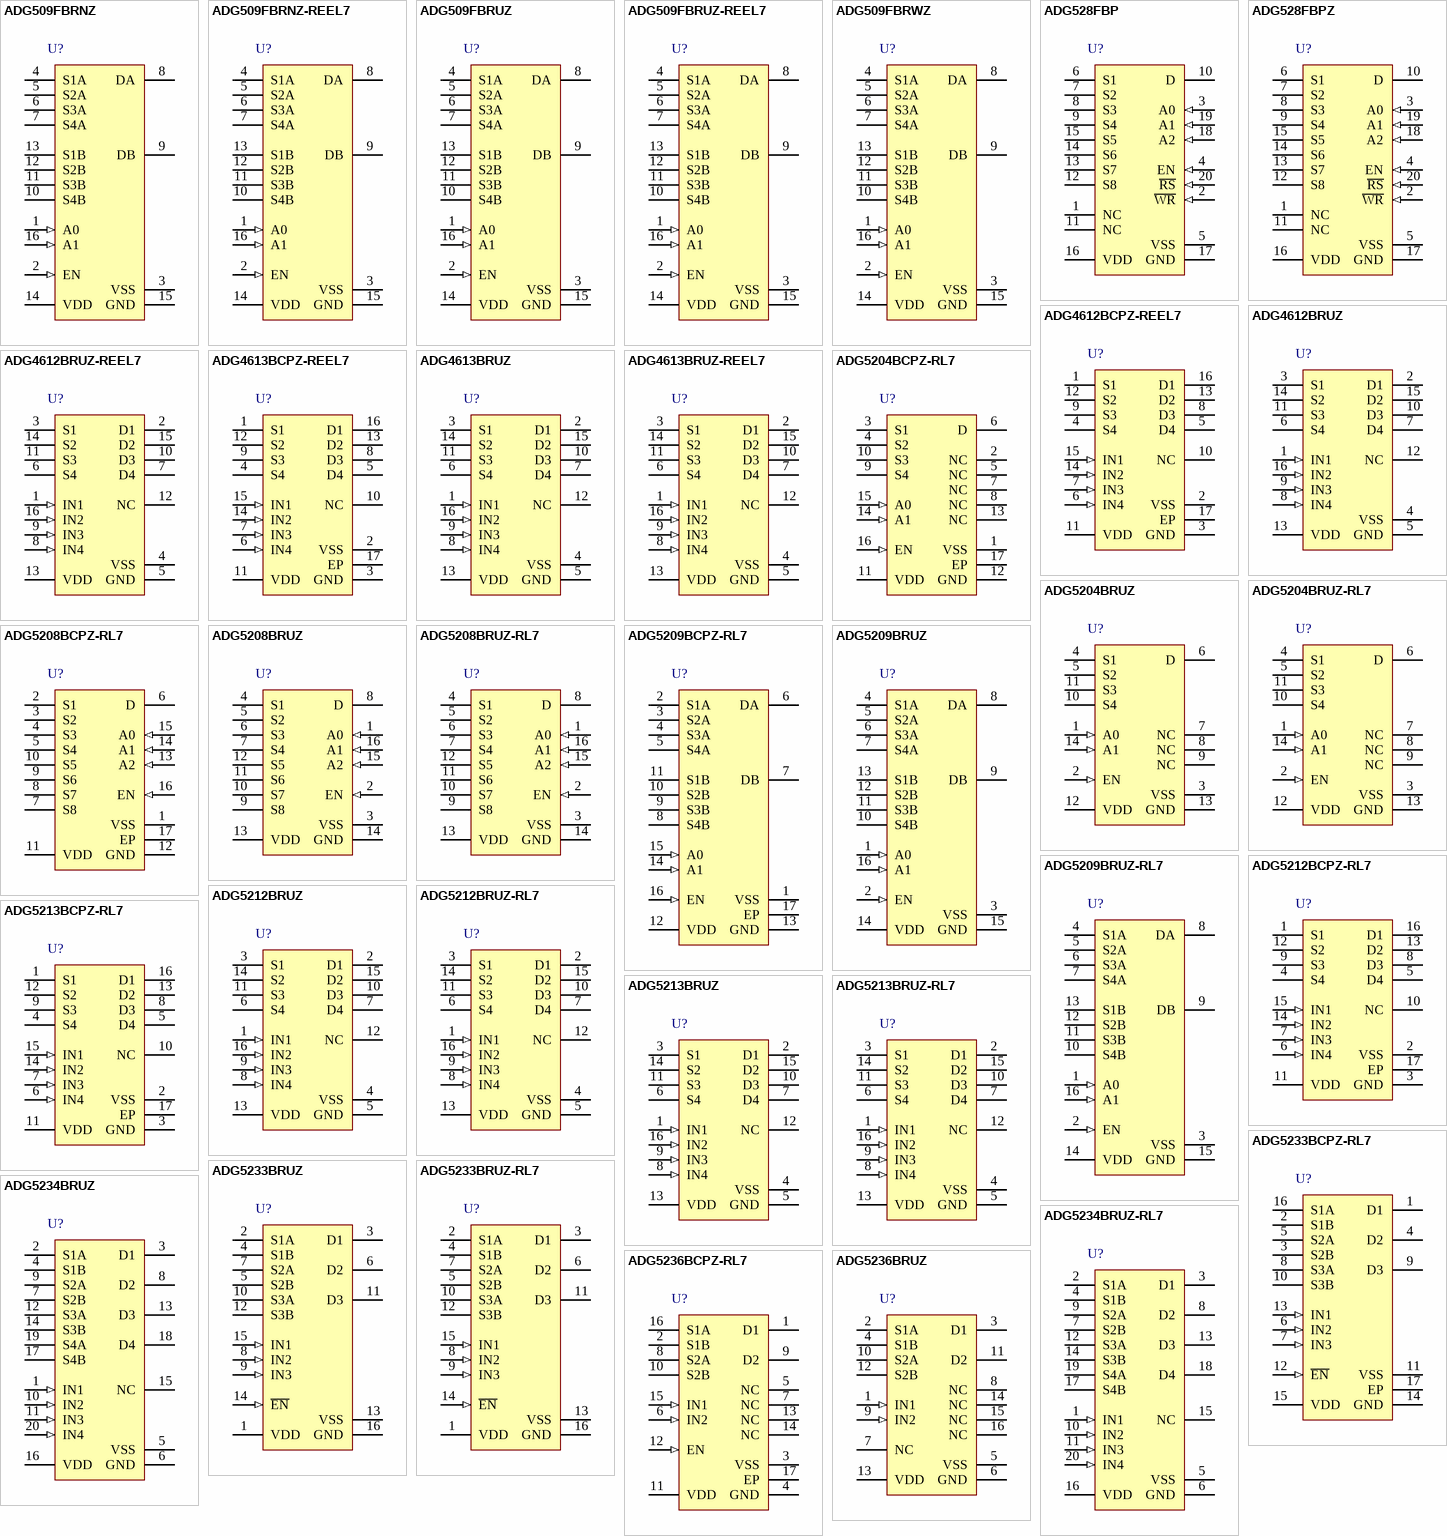
[diagram p1: symbols ADG509FBRNZ to ADG5236BRUZ]

## ADG509FBRNZ
designator U?
4-Channel Fault-Protected Analog Multiplexer, -40 to 85 degC, 16-pin SOIC (R-16), Tube; Manufacturer: Analog Devices; PartNumber: ADG509FBRNZ; Ron (ohms): 300; Supply V Guar Performance: Dual_(+/-12V), Dual_(+/-15V); t transition (s): 200n; DatasheetVersion: Rev. F; PackageVersion: 060606-A, 06/2006; PackageReference: R-16; PackageDescription: 16-Pin Standard Small Outline Package, Body 9.9 x 3.9 mm, Pitch 1.27 mm; Supplier 1: Digi-Key; Supplier Part Number 1: ADG509FBRNZ-ND; Supplier 2: Farnell; Supplier Part Number 2: 1661034; Supplier 3: Newark; Supplier Part Number 3: 19M8661; Supplier 4: Mouser; Supplier Part Number 4: 584-ADG509FBRNZ; Packing: Tube; Mounting Technology: Surface Mount; Code_JEDEC: MS-012-AC; ComponentLink1Description: Manufacturer URL; ComponentLink1URL: http://www.analog.com/en/index.html; ComponentLink2Description: Datasheet; ComponentLink2URL: http://www.analog.com/static/imported-files/data_sheets/ADG508F_509F.pdf; ComponentLink3Description: Package Specification; ComponentLink3URL: http://www.analog.com/static/imported-files/packages/PKG_PDF/SOIC_Narrow%20(R)/R_16.pdf
footprint ADI-R-16_N (SOIC, 16-Leads, Body 9.9x3.9mm, Pitch 1.27mm, IPC Medium Density)
footprint ADI-R-16_L (SOIC, 16-Leads, Body 9.9x3.9mm, Pitch 1.27mm, IPC High Density)
footprint ADI-R-16_M (SOIC, 16-Leads, Body 9.9x3.9mm, Pitch 1.27mm, IPC Low Density)
pins: 1 A0 (in) "Logic Control Input.", 2 EN (in) "Active High Digital Input. When low, the device is disabled and all switches are off. When high, Ax logic inputs determine on switches.", 3 VSS (power) "Most Negative Power Supply Potential. In single-supply applications, this pin can be connected to ground.", 4 S1A "Source Terminal 1A. This pin can be an input or an output.", 5 S2A "Source Terminal 2A. This pin can be an input or an output.", 6 S3A "Source Terminal 3A. This pin can be an input or an output.", 7 S4A "Source Terminal 4A. This pin can be an input or an output.", 8 DA "Drain Terminal A. This pin can be an input or an output.", 9 DB "Drain Terminal B. This pin can be an input or an output.", 10 S4B "Source Terminal 4B. This pin can be an input or an output.", 11 S3B "Source Terminal 3B. This pin can be an input or an output.", 12 S2B "Source Terminal 2B. This pin can be an input or an output.", 13 S1B "Source Terminal 1B. This pin can be an input or an output.", 14 VDD (power) "Most Positive Power Supply Potential.", 15 GND (power) "Ground (0 V) Reference.", 16 A1 (in) "Logic Control Input."

## ADG509FBRNZ-REEL7
designator U?
4-Channel Fault-Protected Analog Multiplexer, -40 to 85 degC, 16-pin SOIC (R-16), Reel; Manufacturer: Analog Devices; PartNumber: ADG509FBRNZ-REEL7; Ron (ohms): 300; Supply V Guar Performance: Dual_(+/-12V), Dual_(+/-15V); t transition (s): 200n; DatasheetVersion: Rev. F; PackageVersion: 060606-A, 06/2006; PackageReference: R-16; PackageDescription: 16-Pin Standard Small Outline Package, Body 9.9 x 3.9 mm, Pitch 1.27 mm; Supplier 1: Digi-Key; Supplier Part Number 1: ADG509FBRNZ-REEL7-ND; Supplier 2: Newark; Supplier Part Number 2: 59K1374; Supplier 3: Mouser; Supplier Part Number 3: 584-ADG509FBRNZ-R7; Packing: Reel; Mounting Technology: Surface Mount; Code_JEDEC: MS-012-AC; ComponentLink1Description: Manufacturer URL; ComponentLink1URL: http://www.analog.com/en/index.html; ComponentLink2Description: Datasheet; ComponentLink2URL: http://www.analog.com/static/imported-files/data_sheets/ADG508F_509F.pdf; ComponentLink3Description: Package Specification; ComponentLink3URL: http://www.analog.com/static/imported-files/packages/PKG_PDF/SOIC_Narrow%20(R)/R_16.pdf
footprint ADI-R-16_N (SOIC, 16-Leads, Body 9.9x3.9mm, Pitch 1.27mm, IPC Medium Density)
footprint ADI-R-16_L (SOIC, 16-Leads, Body 9.9x3.9mm, Pitch 1.27mm, IPC High Density)
footprint ADI-R-16_M (SOIC, 16-Leads, Body 9.9x3.9mm, Pitch 1.27mm, IPC Low Density)
pins: 1 A0 (in) "Logic Control Input.", 2 EN (in) "Active High Digital Input. When low, the device is disabled and all switches are off. When high, Ax logic inputs determine on switches.", 3 VSS (power) "Most Negative Power Supply Potential. In single-supply applications, this pin can be connected to ground.", 4 S1A "Source Terminal 1A. This pin can be an input or an output.", 5 S2A "Source Terminal 2A. This pin can be an input or an output.", 6 S3A "Source Terminal 3A. This pin can be an input or an output.", 7 S4A "Source Terminal 4A. This pin can be an input or an output.", 8 DA "Drain Terminal A. This pin can be an input or an output.", 9 DB "Drain Terminal B. This pin can be an input or an output.", 10 S4B "Source Terminal 4B. This pin can be an input or an output.", 11 S3B "Source Terminal 3B. This pin can be an input or an output.", 12 S2B "Source Terminal 2B. This pin can be an input or an output.", 13 S1B "Source Terminal 1B. This pin can be an input or an output.", 14 VDD (power) "Most Positive Power Supply Potential.", 15 GND (power) "Ground (0 V) Reference.", 16 A1 (in) "Logic Control Input."

## ADG509FBRUZ
designator U?
4-Channel Fault-Protected Analog Multiplexer, -40 to 85 degC, 16-pin SOP (RU-16), Tube; Manufacturer: Analog Devices; PartNumber: ADG509FBRUZ; Ron (ohms): 300; Supply V Guar Performance: Dual_(+/-12V), Dual_(+/-15V); t transition (s): 200n; DatasheetVersion: Rev. F; PackageVersion: Nov-02; PackageReference: RU-16; PackageDescription: 16-Pin Thin Shrink Small Outline Package, Body 5 x 4.4 mm, Pitch 0.65 mm; Supplier 1: Digi-Key; Supplier Part Number 1: ADG509FBRUZ-ND; Supplier 2: Newark; Supplier Part Number 2: 67R2184; Supplier 3: Mouser; Supplier Part Number 3: 584-ADG509FBRUZ; Packing: Tube; Mounting Technology: Surface Mount; Code_JEDEC: MO-153AB; ComponentLink1Description: Manufacturer URL; ComponentLink1URL: http://www.analog.com/en/index.html; ComponentLink2Description: Datasheet; ComponentLink2URL: http://www.analog.com/static/imported-files/data_sheets/ADG508F_509F.pdf; ComponentLink3Description: Package Specification; ComponentLink3URL: http:/www.analog.com/static/imported-files/packages/36244347913743854010197452789RU16.pdf
footprint ADI-RU-16_N (SOP, 16-Leads, Body 5x4.4mm, Pitch 0.65mm, IPC Medium Density)
footprint ADI-RU-16_L (SOP, 16-Leads, Body 5x4.4mm, Pitch 0.65mm, IPC High Density)
footprint ADI-RU-16_M (SOP, 16-Leads, Body 5x4.4mm, Pitch 0.65mm, IPC Low Density)
pins: 1 A0 (in) "Logic Control Input.", 2 EN (in) "Active High Digital Input. When low, the device is disabled and all switches are off. When high, Ax logic inputs determine on switches.", 3 VSS (power) "Most Negative Power Supply Potential. In single-supply applications, this pin can be connected to ground.", 4 S1A "Source Terminal 1A. This pin can be an input or an output.", 5 S2A "Source Terminal 2A. This pin can be an input or an output.", 6 S3A "Source Terminal 3A. This pin can be an input or an output.", 7 S4A "Source Terminal 4A. This pin can be an input or an output.", 8 DA "Drain Terminal A. This pin can be an input or an output.", 9 DB "Drain Terminal B. This pin can be an input or an output.", 10 S4B "Source Terminal 4B. This pin can be an input or an output.", 11 S3B "Source Terminal 3B. This pin can be an input or an output.", 12 S2B "Source Terminal 2B. This pin can be an input or an output.", 13 S1B "Source Terminal 1B. This pin can be an input or an output.", 14 VDD (power) "Most Positive Power Supply Potential.", 15 GND (power) "Ground (0 V) Reference.", 16 A1 (in) "Logic Control Input."

## ADG509FBRUZ-REEL7
designator U?
4-Channel Fault-Protected Analog Multiplexer, -40 to 85 degC, 16-pin SOP (RU-16), Reel; Manufacturer: Analog Devices; PartNumber: ADG509FBRUZ-REEL7; Ron (ohms): 300; Supply V Guar Performance: Dual_(+/-12V), Dual_(+/-15V); t transition (s): 200n; DatasheetVersion: Rev. F; PackageVersion: Nov-02; PackageReference: RU-16; PackageDescription: 16-Pin Thin Shrink Small Outline Package, Body 5 x 4.4 mm, Pitch 0.65 mm; Supplier 1: Digi-Key; Supplier Part Number 1: ADG509FBRUZ-REEL7-ND; Supplier 2: Mouser; Supplier Part Number 2: 584-ADG509FBRUZ-R7; Packing: Reel; Mounting Technology: Surface Mount; Code_JEDEC: MO-153AB; ComponentLink1Description: Manufacturer URL; ComponentLink1URL: http://www.analog.com/en/index.html; ComponentLink2Description: Datasheet; ComponentLink2URL: http://www.analog.com/static/imported-files/data_sheets/ADG508F_509F.pdf; ComponentLink3Description: Package Specification; ComponentLink3URL: http:/www.analog.com/static/imported-files/packages/36244347913743854010197452789RU16.pdf
footprint ADI-RU-16_N (SOP, 16-Leads, Body 5x4.4mm, Pitch 0.65mm, IPC Medium Density)
footprint ADI-RU-16_L (SOP, 16-Leads, Body 5x4.4mm, Pitch 0.65mm, IPC High Density)
footprint ADI-RU-16_M (SOP, 16-Leads, Body 5x4.4mm, Pitch 0.65mm, IPC Low Density)
pins: 1 A0 (in) "Logic Control Input.", 2 EN (in) "Active High Digital Input. When low, the device is disabled and all switches are off. When high, Ax logic inputs determine on switches.", 3 VSS (power) "Most Negative Power Supply Potential. In single-supply applications, this pin can be connected to ground.", 4 S1A "Source Terminal 1A. This pin can be an input or an output.", 5 S2A "Source Terminal 2A. This pin can be an input or an output.", 6 S3A "Source Terminal 3A. This pin can be an input or an output.", 7 S4A "Source Terminal 4A. This pin can be an input or an output.", 8 DA "Drain Terminal A. This pin can be an input or an output.", 9 DB "Drain Terminal B. This pin can be an input or an output.", 10 S4B "Source Terminal 4B. This pin can be an input or an output.", 11 S3B "Source Terminal 3B. This pin can be an input or an output.", 12 S2B "Source Terminal 2B. This pin can be an input or an output.", 13 S1B "Source Terminal 1B. This pin can be an input or an output.", 14 VDD (power) "Most Positive Power Supply Potential.", 15 GND (power) "Ground (0 V) Reference.", 16 A1 (in) "Logic Control Input."

## ADG509FBRWZ
designator U?
4-Channel Fault-Protected Analog Multiplexer, -40 to 85 degC, 16-pin SOIC (RW-16), Tube; Manufacturer: Analog Devices; PartNumber: ADG509FBRWZ; Ron (ohms): 300; Supply V Guar Performance: Dual_(+/-12V), Dual_(+/-15V); t transition (s): 200n; DatasheetVersion: Rev. F; PackageVersion: 032707-B, 03/2007; PackageReference: RW-16; PackageDescription: 16-Pin Standard Small Outline Package, Body 10.3 x 7.5 mm, Pitch 1.27 mm; Supplier 1: Digi-Key; Supplier Part Number 1: ADG509FBRWZ-ND; Supplier 2: Newark; Supplier Part Number 2: 12M7804; Supplier 3: Mouser; Supplier Part Number 3: 584-ADG509FBRWZ; Packing: Tube; Mounting Technology: Surface Mount; Code_JEDEC: MS-013-AA; ComponentLink1Description: Manufacturer URL; ComponentLink1URL: http://www.analog.com/en/index.html; ComponentLink2Description: Datasheet; ComponentLink2URL: http://www.analog.com/static/imported-files/data_sheets/ADG508F_509F.pdf; ComponentLink3Description: Package Specification; ComponentLink3URL: http://www.analog.com/static/imported-files/packages/PKG_PDF/SOIC_WIDE%20%28RW%29/RW_16.pdf
footprint ADI-RW-16_N (SOIC, 16-Leads, Body 10.3x7.5mm, Pitch 1.27mm, IPC Medium Density)
footprint ADI-RW-16_L (SOIC, 16-Leads, Body 10.3x7.5mm, Pitch 1.27mm, IPC High Density)
footprint ADI-RW-16_M (SOIC, 16-Leads, Body 10.3x7.5mm, Pitch 1.27mm, IPC Low Density)
pins: 1 A0 (in) "Logic Control Input.", 2 EN (in) "Active High Digital Input. When low, the device is disabled and all switches are off. When high, Ax logic inputs determine on switches.", 3 VSS (power) "Most Negative Power Supply Potential. In single-supply applications, this pin can be connected to ground.", 4 S1A "Source Terminal 1A. This pin can be an input or an output.", 5 S2A "Source Terminal 2A. This pin can be an input or an output.", 6 S3A "Source Terminal 3A. This pin can be an input or an output.", 7 S4A "Source Terminal 4A. This pin can be an input or an output.", 8 DA "Drain Terminal A. This pin can be an input or an output.", 9 DB "Drain Terminal B. This pin can be an input or an output.", 10 S4B "Source Terminal 4B. This pin can be an input or an output.", 11 S3B "Source Terminal 3B. This pin can be an input or an output.", 12 S2B "Source Terminal 2B. This pin can be an input or an output.", 13 S1B "Source Terminal 1B. This pin can be an input or an output.", 14 VDD (power) "Most Positive Power Supply Potential.", 15 GND (power) "Ground (0 V) Reference.", 16 A1 (in) "Logic Control Input."

## ADG528FBP
designator U?
8-Channel Fault-Protected Analog Multiplexer, -40 to 85 degC, 20-pin PLCC (P-20A), Tube; Manufacturer: Analog Devices; PartNumber: ADG528FBP; Ron (ohms): 300; Supply V Guar Performance: Dual_(+/-12V), Dual_(+/-15V); t transition (s): 200n; DatasheetVersion: Rev. F; PackageVersion: Nov-02; PackageReference: P-20A; PackageDescription: 20-Pin Plastic Leaded Chip Carrier, Body 8.97 x 8.97 mm, Pitch 1.27 mm; Supplier 1: Digi-Key; Supplier Part Number 1: ADG528FBP-ND; Supplier 2: Mouser; Supplier Part Number 2: 584-ADG528FBP; Packing: Tube; Mounting Technology: Surface Mount; Code_JEDEC: MO-047AA; ComponentLink1Description: Manufacturer URL; ComponentLink1URL: http://www.analog.com/en/index.html; ComponentLink2Description: Datasheet; ComponentLink2URL: http://www.analog.com/static/imported-files/data_sheets/ADG528F.pdf; ComponentLink3Description: Package Specification; ComponentLink3URL: http://www.analog.com/static/imported-files/packages/3121431516544404277643669223804694P20A.pdf
footprint ADI-P-20A_N (PLCC, 20-Leads, Body 8.965x8.965mm, Pitch 1.27mm, IPC Medium Density)
footprint ADI-P-20A_L (PLCC, 20-Leads, Body 8.965x8.965mm, Pitch 1.27mm, IPC High Density)
footprint ADI-P-20A_M (PLCC, 20-Leads, Body 8.965x8.965mm, Pitch 1.27mm, IPC Low Density)
pins: 1 NC "No Connect. This pin is open.", 2 ~{WR} (in) "Write. The W\R\ signal latches the state of the address control lines and the enable line.", 3 A0 (in) "Logic Control Input.", 4 EN (in) "Active High Digital Input. When low, the device is disabled and all switches are off. When high, Ax logic inputs determine on switches.", 5 VSS (power) "Most Negative Power Supply Potential. In single-supply applications, this pin can be connected to ground.", 6 S1 "Source Terminal 1. This pin can be an input or an output.", 7 S2 "Source Terminal 2. This pin can be an input or an output.", 8 S3 "Source Terminal 3. This pin can be an input or an output.", 9 S4 "Source Terminal 4. This pin can be an input or an output.", 10 D "Drain Terminal. This pin can be an input or an output.", 11 NC "No Connect. This pin is open.", 12 S8 "Source Terminal 8. This pin can be an input or an output.", 13 S7 "Source Terminal 7. This pin can be an input or an output.", 14 S6 "Source Terminal 6. This pin can be an input or an output.", 15 S5 "Source Terminal 5. This pin can be an input or an output.", 16 VDD (power) "Most Positive Power Supply Potential.", 17 GND (power) "Ground (0 V) Reference.", 18 A2 (in) "Logic Control Input.", 19 A1 (in) "Logic Control Input.", 20 ~{RS} (in) "Reset. The R\S\ signal clears both the address and enable data in the latches resulting in no output (all switches off)."